# Altium footprint library XTAL_2010.PcbLib: 1 footprints
Each footprint in its own frame and in the unit in brackets; x right, y up, seen from the top. Pads: shape width x height; smd on the part's side, far side on the other; paste and mask are expansions set on the pad; w line width, h text height; cw(c..) or ccw(c..) is an arc to the next point about the centre after c.
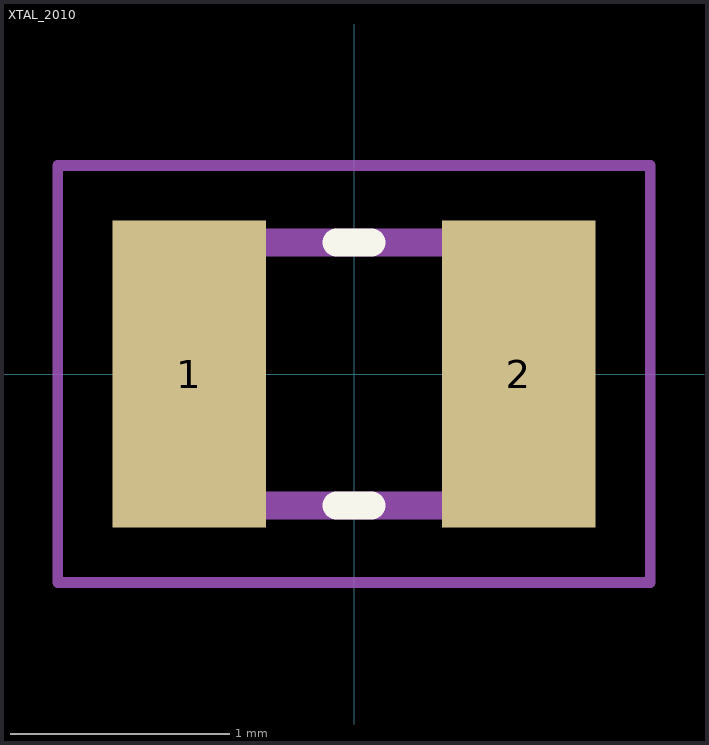
[diagram p0: the footprint, top view; thin cyan lines are the x and y axes]

## XTAL_2010 [mm]
pads (2):
  rect 0.7x1.4 smd: 1(-0.75,0) 2(0.75,0)
Top Overlay:
  lines w0.127: -0.08,-0.6 0.08,-0.6 ; -0.08,0.6 0.08,0.6
Top 3D Body:
  lines w0.127: -1.025,-0.6 -1.025,0.6 1.025,0.6 1.025,-0.6 -1.025,-0.6
Top Courtyard:
  lines w0.05: -1.35,-0.95 -1.35,0.95 1.35,0.95 1.35,-0.95 -1.35,-0.95
3D body "FC-12M32_7680KA-A3_EPS.step": height 0.61, standoff 0, extent -1.1,-0.698 1.1,0.698